# Altium footprint library Other.PcbLib: 22 footprints (part 1 of 2)
Each footprint in its own frame and in the unit in brackets; x right, y up, seen from the top. Pads: shape width x height; smd on the part's side, far side on the other; paste and mask are expansions set on the pad; w line width, h text height; cw(c..) or ccw(c..) is an arc to the next point about the centre after c.
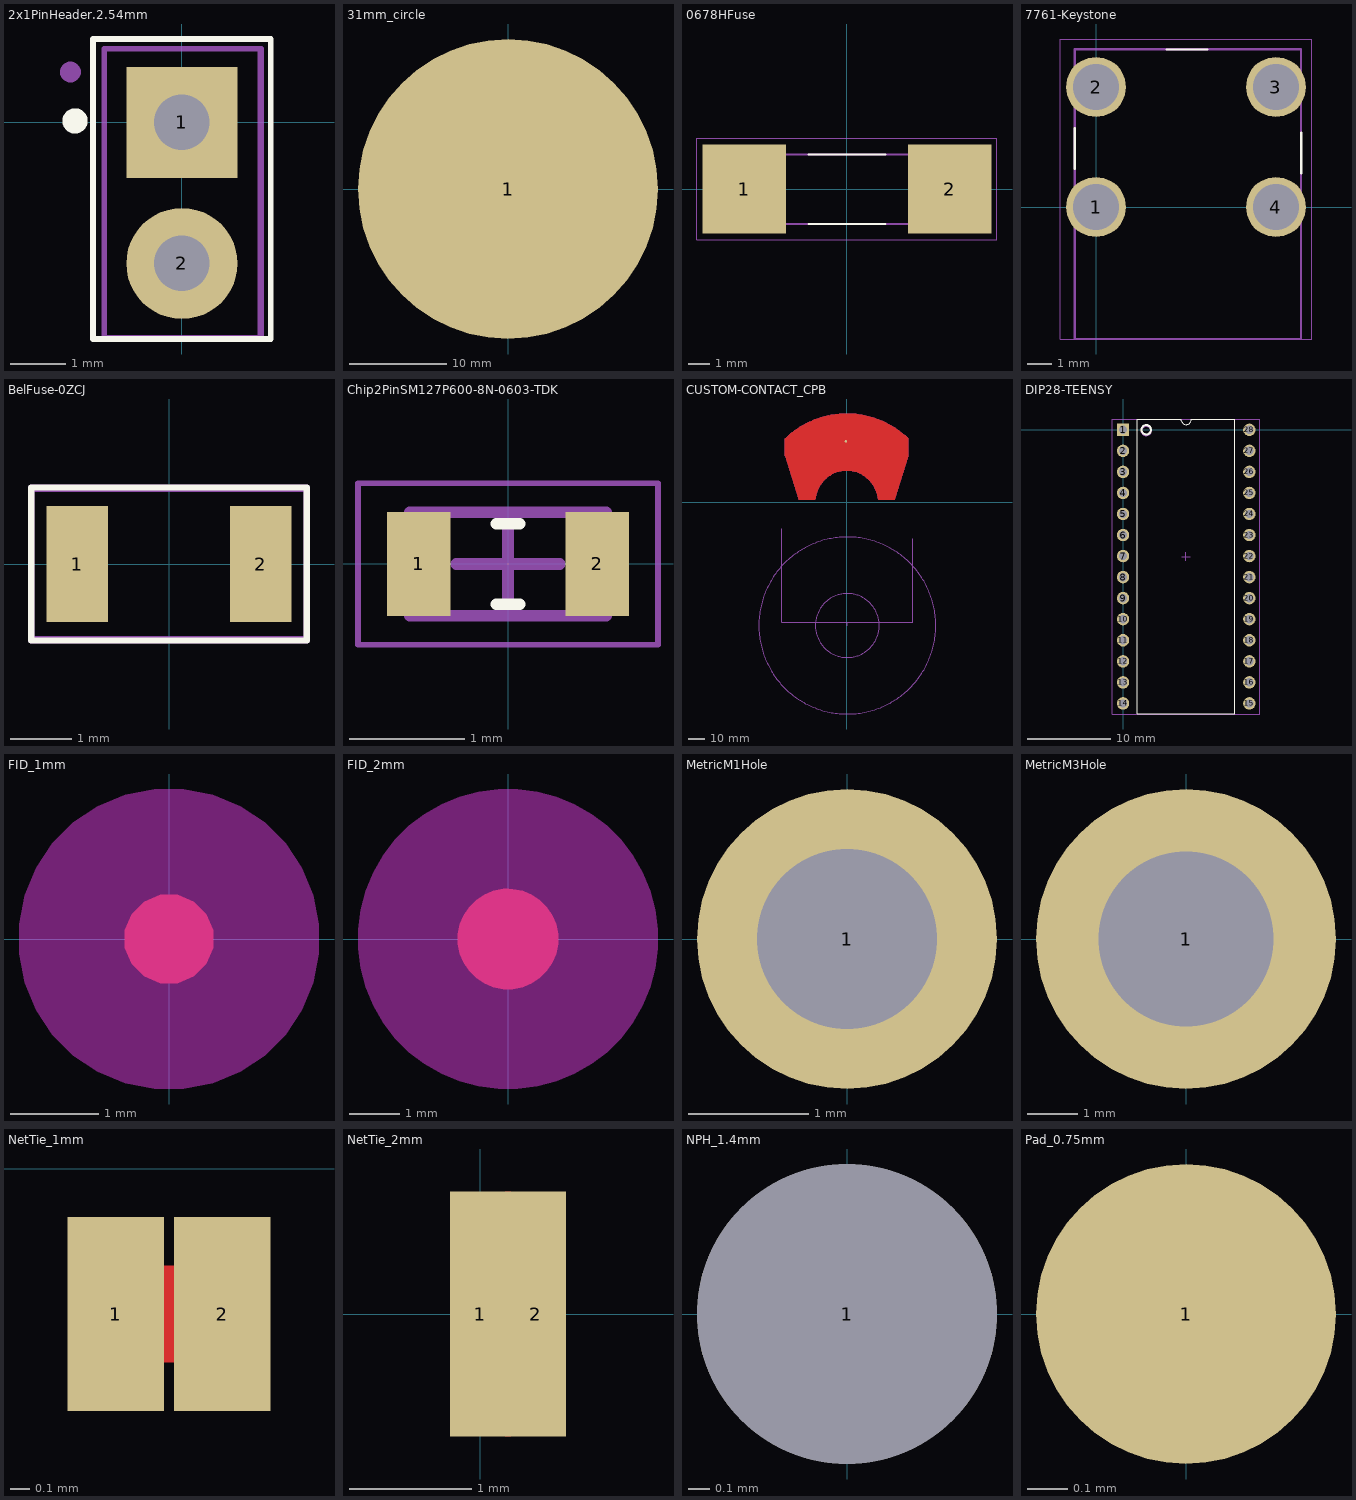
[diagram p0: the footprints below, top view; thin cyan lines are the x and y axes]

## 2x1PinHeader.2.54mm [mm]
pads (2):
  rect 2x2 hole 1: 1(0,0)
  round 2 hole 1: 2(0,-2.54)
Top Overlay:
  circle w0.254: c-1.925,0.025 r0.1
  lines w0.1: -1.6,-3.9 -1.6,1.5 1.6,1.5 1.6,-3.9 -1.6,-3.9
Top Courtyard:
  lines w0.1: -1.4,-3.875 -1.4,1.325 1.425,1.325 1.425,-3.875 -1.4,-3.875
Top Assembly (Mech12):
  circle w0.254: c-2.006,0.905 r0.059
  lines w0.1: -1.4,-3.875 1.409,-3.875 1.409,1.323 -1.4,1.323 -1.4,-3.875
3D body "c-5-146285-2-f-3d.stp": height 8.34, standoff -2.08, extent -1.162,-3.612 1.175,1.062

## 31mm_circle [mm]
pads (1):
  round 31 smd: 1(0,0)

## 0678HFuse [mm]
pads (2):
  rect 3.81x4.06 smd: 1(-4.705,0) 2(4.705,0)
Top Overlay:
  lines w0.1: -1.75,-1.6 1.75,-1.6 ; -1.75,1.58 1.75,1.58
Top Courtyard:
  lines w0.05: -6.86,-2.33 6.86,-2.33 6.86,2.33 -6.86,2.33 -6.86,-2.33
Top Assembly (Mech12):
  lines w0.1: -4.9,-1.6 4.9,-1.6 4.9,1.58 -4.9,1.58 -4.9,-1.6
3D body "0678H9200-02.STEP": height 3.03, standoff -0.03, extent -4.9,-1.6 4.9,1.58

## 7761-Keystone [mm]
pads (4):
  round 2.5 hole 1.9: 1(0,0) 2(0,5) 3(7.5,5) 4(7.5,0)
Top Overlay:
  lines w0.1: -0.879,1.601 -0.879,3.289 ; 2.947,6.561 4.634,6.561 ; 8.551,1.404 8.551,3.092
Top Courtyard:
  lines w0.05: -1.5,-5.5 9,-5.5 9,7 -1.5,7 -1.5,-5.5
Top Assembly (Mech12):
  lines w0.1: -0.879,-5.5 8.542,-5.5 8.542,6.57 -0.879,6.57 -0.879,-5.5
3D body "keystone-PN7761.STEP": height 8.24, standoff -4.79, extent -0.879,-20.16 8.535,6.57

## BelFuse-0ZCJ [mm]
pads (2):
  rect 1x1.9 smd: 1(-1.5,0) 2(1.5,0)
Top Overlay:
  lines w0.1: -2.25,-1.25 2.25,-1.25 2.25,1.25 -2.25,1.25 -2.25,-1.25
Top Courtyard:
  lines w0.05: -2.25,-1.2 2.25,-1.2 2.25,1.2 -2.25,1.2 -2.25,-1.2
Top Assembly (Mech12):
  lines w0.1: -2.25,-1.25 2.25,-1.25 2.25,1.25 -2.25,1.25 -2.25,-1.25
3D body "User Library-0ZCJ0035FF2G.step": height 0.8, standoff 0, extent -1.7,-0.85 1.7,0.85

## Chip2PinSM127P600-8N-0603-TDK [mm] "Based off NTCG163JF103HT1S"
height 0.8
pads (2):
  rect 0.55x0.9 smd: 1(-0.775,0) 2(0.775,0)
Top Overlay:
  lines w0.1: -0.1,-0.35 0.1,-0.35 ; -0.1,0.35 0.1,0.35
Top Courtyard:
  lines w0.05: -1.3,-0.7 1.3,-0.7 1.3,0.7 -1.3,0.7 -1.3,-0.7
  lines w0.1: -0.45,0 0.45,0 ; 0,-0.45 0,0.45
Top Assembly (Mech12):
  lines w0.1: -0.85,-0.45 -0.85,0.45 0.85,0.45 0.85,-0.45 -0.85,-0.45
3D body "Chip2PinSM127P600-8N-0603-TDK.step": height 0.8, standoff 0, extent -0.85,-0.45 0.85,0.45

## CUSTOM-CONTACT_CPB [mm]
pads (1):
  round 1.524 smd paste-5 mask+0: 1(-0.475,37.325)
Top Layer:
  region: -29.397,2 -37.591,28.483 -37.591,38.768 -36.763,39.571 -35.04,41.104 -33.253,42.563 -31.405,43.944 -29.5,45.245 -27.541,46.463 -25.532,47.597 -23.476,48.644 -21.378,49.602 -19.24,50.469 -17.068,51.245 -14.864,51.927 -12.633,52.514 -10.38,53.006 -8.107,53.4 -5.819,53.698 -3.521,53.897 -1.217,53.999 1.09,54.001 3.395,53.906 5.694,53.711 7.982,53.419 10.256,53.03 12.511,52.543 14.743,51.961 16.948,51.284 19.122,50.514 21.262,49.651 23.362,48.698 25.42,47.656 27.432,46.527 29.394,45.314 31.302,44.017 33.153,42.641 34.943,41.186 36.67,39.656 37.5,38.856 37.5,28.19 29.397,2 19.397,2 19.32,2.646 19.1,3.928 18.796,5.193 18.408,6.435 17.938,7.648 17.388,8.827 16.76,9.967 16.059,11.062 15.285,12.108 14.444,13.101 13.538,14.035 12.572,14.906 11.55,15.711 10.477,16.446 9.357,17.108 8.195,17.694 6.997,18.201 5.768,18.627 4.513,18.971 3.238,19.229 1.949,19.402 0.65,19.489 -0.65,19.489 -1.949,19.402 -3.238,19.229 -4.513,18.971 -5.768,18.627 -6.997,18.201 -8.195,17.694 -9.357,17.108 -10.477,16.446 -11.55,15.711 -12.572,14.906 -13.538,14.035 -14.444,13.101 -15.285,12.108 -16.059,11.062 -16.76,9.967 -17.388,8.827 -17.938,7.648 -18.408,6.435 -18.796,5.193 -19.1,3.928 -19.32,2.646 -19.397,2
  lines w0.254: -29.397,2 -37.591,28.483 -37.591,38.768 cw(c0,0) 37.5,38.856 37.5,28.19 29.397,2 ; -29.397,2 -19.397,2 ; -29.397,2 -19.397,2 ; -19.397,2 cw(c0,0) 19.397,2 ; -19.397,2 cw(c0,0) 19.397,2 ; 19.397,2 29.397,2 ; 19.397,2 29.397,2
Drawing_Creation:
  circle w0.254: c0.346,-75.075 r54
  circle w0.254: c0.346,-75.075 r19.5
  lines w0.254: -39.654,-38.798 -39.654,-73.075 ; -39.654,-16.075 -39.654,-73.075 ; 0.346,-75.075 0.346,-73.075 ; 40.346,-38.798 40.346,-73.075 ; 40.346,-22.075 40.346,-73.075 ; -39.654,-73.075 40.346,-73.075 ; -39.654,-73.075 40.346,-73.075 ; -37.591,28.483 -37.591,38.768 cw(c0,0) 37.5,38.856 37.5,28.19 29.397,2 19.397,2 ccw(c0,0) -19.397,2 -29.397,2 -37.591,28.483

## DIP28-TEENSY [mm]
pads (28):
  rect 1.5x1.5 hole 1 paste+0: 1(0,0)
  round 1.5 hole 1 paste+0: 2(0,-2.54) 3(0,-5.08) 4(0,-7.62) 5(0,-10.16) 6(0,-12.7) 7(0,-15.24) 8(0,-17.78) 9(0,-20.32) 10(0,-22.86) 11(0,-25.4) 12(0,-27.94) 13(0,-30.48) 14(0,-33.02) 15(15.24,-33.02) 16(15.24,-30.48) 17(15.24,-27.94) 18(15.24,-25.4) 19(15.24,-22.86) 20(15.24,-20.32) 21(15.24,-17.78) 22(15.24,-15.24) 23(15.24,-12.7) 24(15.24,-10.16) 25(15.24,-7.62) 26(15.24,-5.08) 27(15.24,-2.54) 28(15.24,0)
Top Overlay:
  circle w0.254: c2.8,0 r0.566
  lines w0.1: 1.735,-34.29 13.505,-34.29 13.505,1.27 8.255,1.27 cw(c7.62,1.27) 6.985,1.27 1.735,1.27 1.735,-34.29
Top Courtyard:
  lines w0.1: 7.1,-15.3 8.1,-15.3 ; 7.6,-15.8 7.6,-14.8 ; -1.3,-34.3 -1.3,1.3 16.5,1.3 16.5,-34.3 -1.3,-34.3
Top Assembly (Mech12):
  circle w0.254: c2.8,-0.1 r0.566
  lines w0.1: -1.3,-34.3 16.5,-34.3 16.5,1.3 -1.3,1.3 -1.3,-34.3
3D body "c-1-2199299-2-a-3d.stp": height 5.5, standoff -2.6, extent -1.25,-34.26 16.45,1.3

## FID_1mm [mm]
Top Layer:
  region: -0.5,0 -0.5,-0.099 -0.424,-0.283 -0.283,-0.424 -0.099,-0.5 0,-0.5 0.099,-0.5 0.283,-0.424 0.424,-0.283 0.5,-0.099 0.5,0 0.5,0.099 0.424,0.283 0.283,0.424 0.099,0.5 0,0.5 -0.099,0.5 -0.283,0.424 -0.424,0.283 -0.5,0.099
Top Layer keep-out:
  region: 0,-1.7 -0.167,-1.7 -0.496,-1.635 -0.805,-1.507 -1.084,-1.32 -1.32,-1.084 -1.507,-0.805 -1.635,-0.496 -1.7,-0.167 -1.7,0 -1.7,0.167 -1.635,0.496 -1.507,0.805 -1.32,1.084 -1.084,1.32 -0.805,1.507 -0.496,1.635 -0.167,1.7 0,1.7 0.167,1.7 0.496,1.635 0.805,1.507 1.084,1.32 1.32,1.084 1.507,0.805 1.635,0.496 1.7,0.167 1.7,0 1.7,-0.167 1.635,-0.496 1.507,-0.805 1.32,-1.084 1.084,-1.32 0.805,-1.507 0.496,-1.635 0.167,-1.7
Top Solder:
  region: -1.5,0 -1.5,-0.148 -1.442,-0.438 -1.329,-0.711 -1.165,-0.956 -0.956,-1.165 -0.711,-1.329 -0.438,-1.442 -0.148,-1.5 0,-1.5 0.148,-1.5 0.438,-1.442 0.711,-1.329 0.956,-1.165 1.165,-0.956 1.329,-0.711 1.442,-0.438 1.5,-0.148 1.5,0 1.5,0.148 1.442,0.438 1.329,0.711 1.165,0.956 0.956,1.165 0.711,1.329 0.438,1.442 0.148,1.5 0,1.5 -0.148,1.5 -0.438,1.442 -0.711,1.329 -0.956,1.165 -1.165,0.956 -1.329,0.711 -1.442,0.438 -1.5,0.148
3D body: height 1.27, standoff 0, extent -1.7,-1.7 1.7,1.7

## FID_2mm [mm]
Top Layer:
  region: -1,0 -1,-0.098 -0.962,-0.292 -0.886,-0.474 -0.777,-0.637 -0.637,-0.777 -0.474,-0.886 -0.292,-0.962 -0.098,-1 0,-1 0.098,-1 0.292,-0.962 0.474,-0.886 0.637,-0.777 0.777,-0.637 0.886,-0.474 0.962,-0.292 1,-0.098 1,0 1,0.098 0.962,0.292 0.886,0.474 0.777,0.637 0.637,0.777 0.474,0.886 0.292,0.962 0.098,1 0,1 -0.098,1 -0.292,0.962 -0.474,0.886 -0.637,0.777 -0.777,0.637 -0.886,0.474 -0.962,0.292 -1,0.098
Top Layer keep-out:
  region: 0,-3 -0.197,-3 -0.587,-2.949 -0.966,-2.847 -1.33,-2.696 -1.67,-2.5 -1.982,-2.26 -2.26,-1.982 -2.5,-1.67 -2.696,-1.33 -2.847,-0.966 -2.949,-0.587 -3,-0.197 -3,0 -3,0.197 -2.949,0.587 -2.847,0.966 -2.696,1.33 -2.5,1.67 -2.26,1.982 -1.982,2.26 -1.67,2.5 -1.33,2.696 -0.966,2.847 -0.587,2.949 -0.197,3 0,3 0.197,3 0.587,2.949 0.966,2.847 1.33,2.696 1.67,2.5 1.982,2.26 2.26,1.982 2.5,1.67 2.696,1.33 2.847,0.966 2.949,0.587 3,0.197 3,0 3,-0.197 2.949,-0.587 2.847,-0.966 2.696,-1.33 2.5,-1.67 2.26,-1.982 1.982,-2.26 1.67,-2.5 1.33,-2.696 0.966,-2.847 0.587,-2.949 0.197,-3
Top Solder:
  region: 0,-3 -0.197,-3 -0.587,-2.949 -0.966,-2.847 -1.33,-2.696 -1.67,-2.5 -1.982,-2.26 -2.26,-1.982 -2.5,-1.67 -2.696,-1.33 -2.847,-0.966 -2.949,-0.587 -3,-0.197 -3,0 -3,0.197 -2.949,0.587 -2.847,0.966 -2.696,1.33 -2.5,1.67 -2.26,1.982 -1.982,2.26 -1.67,2.5 -1.33,2.696 -0.966,2.847 -0.587,2.949 -0.197,3 0,3 0.197,3 0.587,2.949 0.966,2.847 1.33,2.696 1.67,2.5 1.982,2.26 2.26,1.982 2.5,1.67 2.696,1.33 2.847,0.966 2.949,0.587 3,0.197 3,0 3,-0.197 2.949,-0.587 2.847,-0.966 2.696,-1.33 2.5,-1.67 2.26,-1.982 1.982,-2.26 1.67,-2.5 1.33,-2.696 0.966,-2.847 0.587,-2.949 0.197,-3
3D body: height 1, standoff 0, extent -3,-3 3,3

## MetricM1Hole [mm]
pads (1):
  round 2.5 hole 1.5: 1(0,0)

## MetricM3Hole [mm]
pads (1):
  round 6 hole 3.5: 1(0,0)

## NetTie_1mm [mm]
pads (2):
  rect 0.5x1 smd paste-0.5 mask-1: 1(-1.675,-0.75) 2(-1.125,-0.75)
Top Layer:
  lines w0.5: -1.431,-0.75 -1.381,-0.75

## NetTie_2mm [mm]
pads (2):
  rect 0.5x2 smd paste-0.5 mask-1: 1(0,0) 2(0.45,0)
Top Layer:
  rectangle: 0.2,-1 0.25,1

## NPH_1.4mm [mm]
pads (1):
  round 1.4 hole 1.4 unplated paste-1 mask-1: 1(0,0)

## Pad_0.75mm [mm]
pads (1):
  round 0.75 smd: 1(0,0)